# EAGLE library part 24LC16BT-I/MC (library ic-mhm)
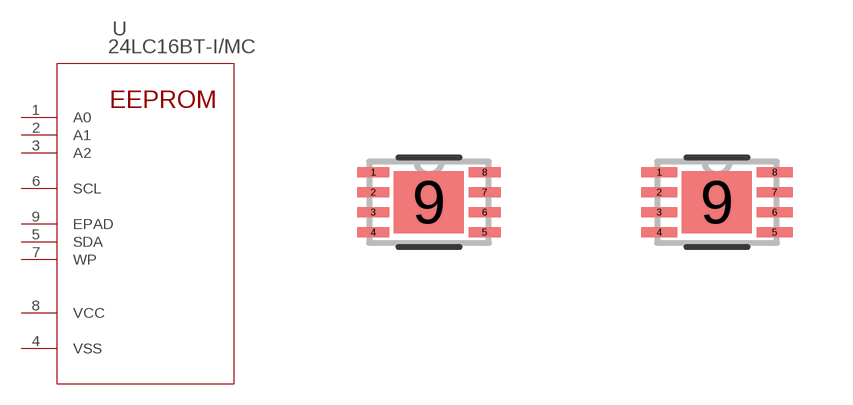
[diagram p4: symbol with the pads of DFN8_2X3MC_MCH; footprints DFN8_2X3MC_MCH, DFN8_2X3MC_MCH-M]

Designator prefix U

## 24LC16BT-I/MC (COPYRIGHT: Copyright (C) 2021 Ultra Librarian. All rights reserved.; DIGI-KEY_PART_NUMBER_1: 24LC16BT-I/MCCT-ND; DIGI-KEY_PART_NUMBER_2: 24LC16BT-I/MCDKR-ND; DIGI-KEY_PART_NUMBER_3: 24LC16BT-I/MCTR-ND; MANUFACTURER_PART_NUMBER: 24LC16BT-I/MC; MFR_NAME: Microchip)  [DFN8_2X3MC_MCH]
1  A0  in
2  A1  in
3  A2  in
4  VSS  pwr
5  SDA
6  SCL  in
7  WP  pas
8  VCC  pwr
9  EPAD  pas

## 24LC16BT-I/MCDFN8_2X3MC_MCH-M (COPYRIGHT: Copyright (C) 2021 Ultra Librarian. All rights reserved.; DIGI-KEY_PART_NUMBER_1: 24LC16BT-I/MCCT-ND; DIGI-KEY_PART_NUMBER_2: 24LC16BT-I/MCDKR-ND; DIGI-KEY_PART_NUMBER_3: 24LC16BT-I/MCTR-ND; MANUFACTURER_PART_NUMBER: 24LC16BT-I/MC; MFR_NAME: Microchip)  [DFN8_2X3MC_MCH-M]
Pads as for DFN8_2X3MC_MCH

## 24LC16BT-I/MCDFN8_2X3MC_MCH-L (COPYRIGHT: Copyright (C) 2021 Ultra Librarian. All rights reserved.; DIGI-KEY_PART_NUMBER_1: 24LC16BT-I/MCCT-ND; DIGI-KEY_PART_NUMBER_2: 24LC16BT-I/MCDKR-ND; DIGI-KEY_PART_NUMBER_3: 24LC16BT-I/MCTR-ND; MANUFACTURER_PART_NUMBER: 24LC16BT-I/MC; MFR_NAME: Microchip)  [DFN8_2X3MC_MCH-L]
Pads as for DFN8_2X3MC_MCH

## Footprint DFN8_2X3MC_MCH (pad centres in mm)
smd 0.808 x 0.255: 1 -1.395,0.75; 2 -1.395,0.25; 3 -1.395,-0.25; 4 -1.395,-0.75; 5 1.395,-0.75; 6 1.395,-0.25; 7 1.395,0.25; 8 1.395,0.75
smd 1.753 x 1.549: 9 0,0

## Footprint DFN8_2X3MC_MCH-M (pad centres in mm)
smd 0.908 x 0.255: 1 -1.445,0.75; 2 -1.445,0.25; 3 -1.445,-0.25; 4 -1.445,-0.75; 5 1.445,-0.75; 6 1.445,-0.25; 7 1.445,0.25; 8 1.445,0.75
smd 1.753 x 1.549: 9 0,0

## Footprint DFN8_2X3MC_MCH-L (pad centres in mm)
smd 0.708 x 0.255: 1 -1.345,0.75; 2 -1.345,0.25; 3 -1.345,-0.25; 4 -1.345,-0.75; 5 1.345,-0.75; 6 1.345,-0.25; 7 1.345,0.25; 8 1.345,0.75
smd 1.753 x 1.549: 9 0,0